# Altium integrated library LimeSDR-XTRX_1v1.IntLib: 82 symbols (part 3 of 3)
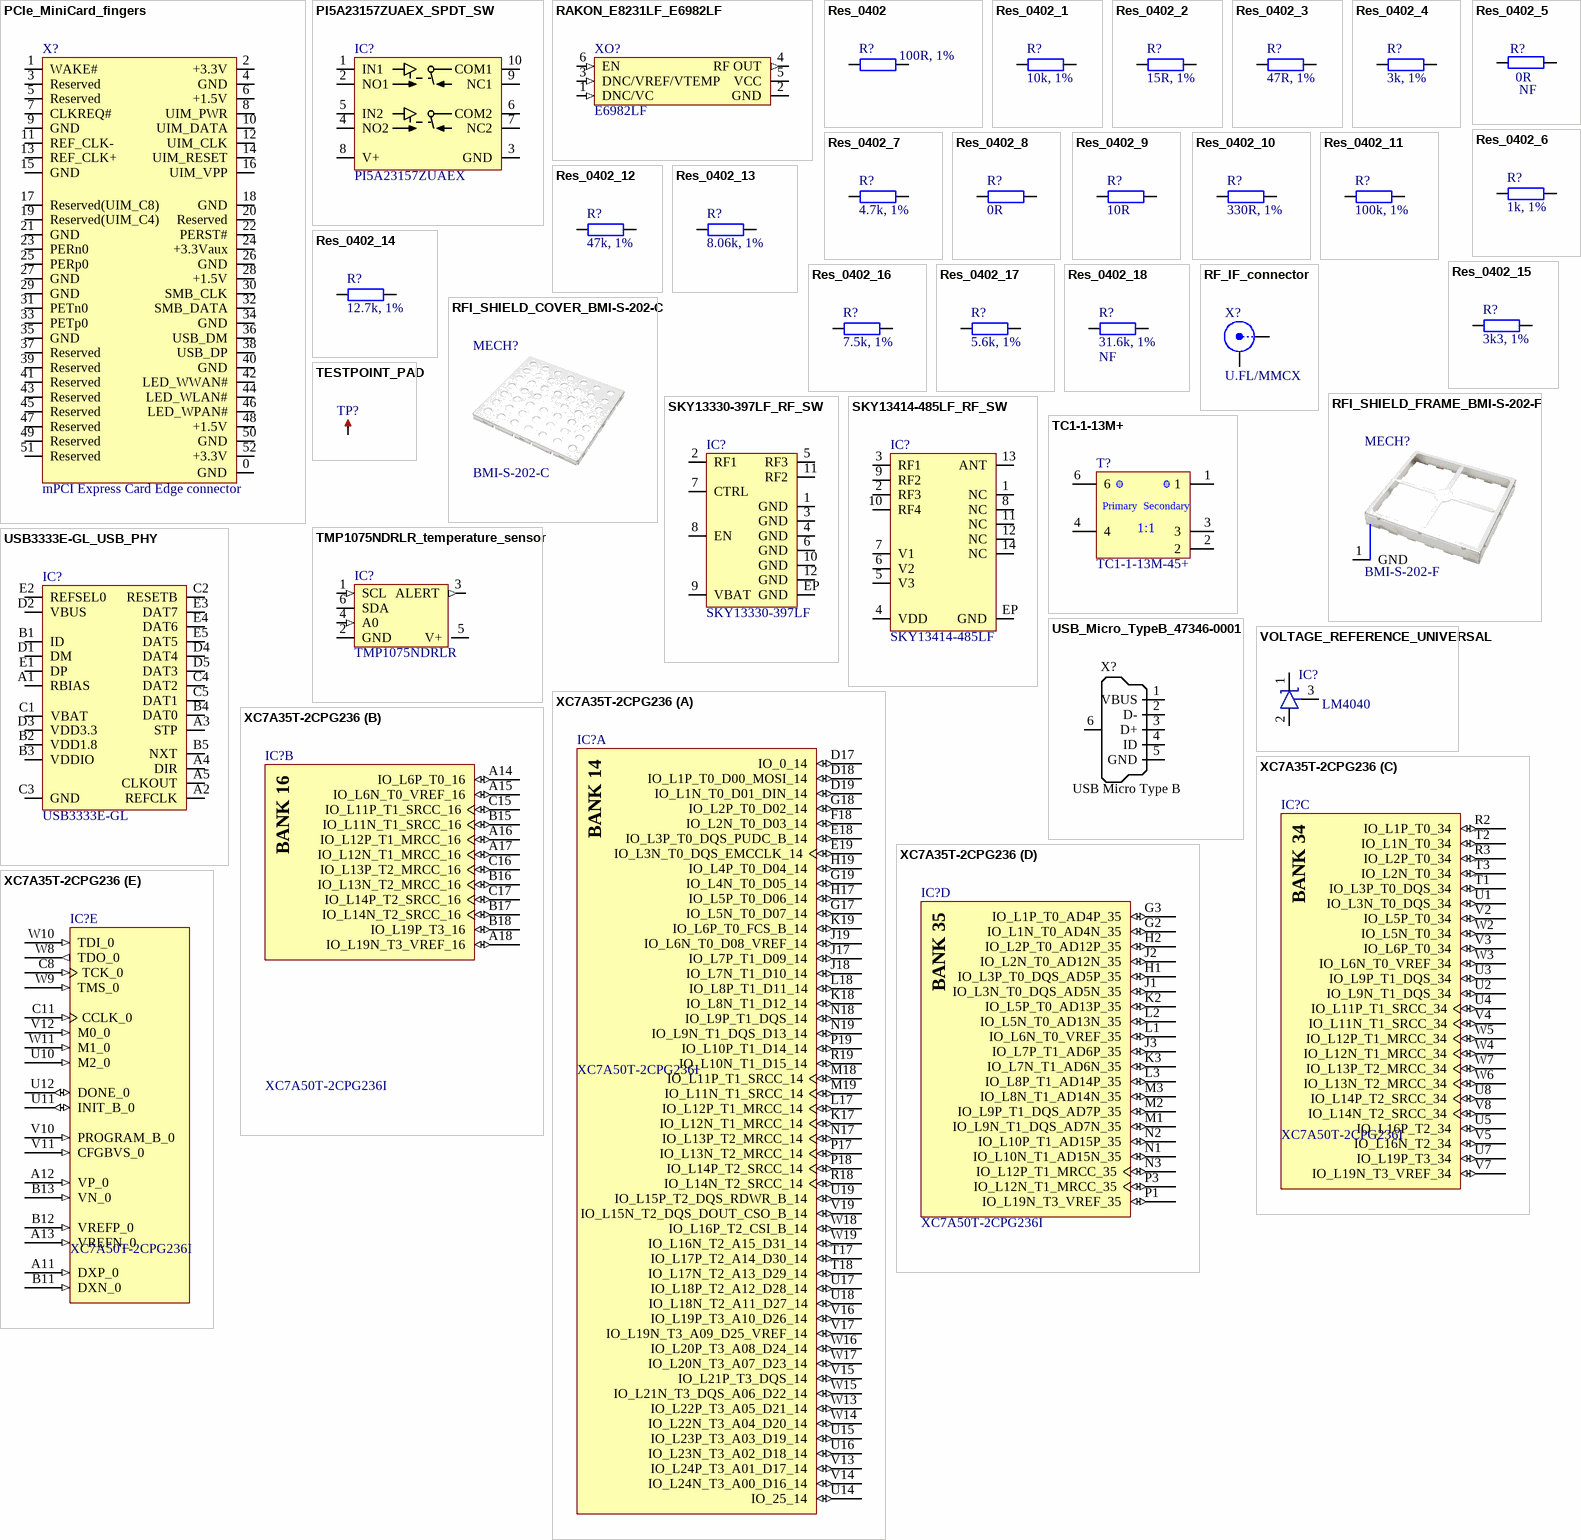
[diagram p5: symbols PCIe_MiniCard_fingers to XC7A35T-2CPG236]

## Res_0402_15
designator R?, comment 3k3, 1%
Part Description: 3.3 kOhms ±1% 0.05W, 1/20W Chip Resistor 0201 (0603 Metric) Moisture Resistant Thick Film; Manufacturer: Yageo; Manufacturer Part Number 1: RC0201FR-073K3L; Resistance: 3.3kR; Power Rating: 50mW; Voltage Rating: 25V; Temperature Coefficient: 200ppm/°C; ComponentLink1URL: http://www.yageo.com/documents/recent/PYu-RC_Group_51_RoHS_L_7.pdf; ComponentLink1Description: http://www.yageo.com/documents/recent/PYu-RC_Group_51_RoHS_L_7.pdf; Value: 3k3, 1%; Supplier 1: Digi-Key; Supplier Part Number 1: YAG2285CT-ND; Stock 1: 586100; Pricing 1: 1=0,10000, 10=0,03700, 100=0,01500, 1000=0,00672, 2500=0,00583, 5000=0,00482 (USD); RoHS: Yes; Case/Package: 0201; Case Code (Metric): 0603; Case Code (Imperial): 0201; Min Operating Temperature: -55°C; Max Operating Temperature: 125°C; Tolerance: 1%; Packaging: Tape and Reel; Package Quantity: 10000; Resistor Type: Thick Film; Number of Terminations: 2; Termination: SMD/SMT; Max Power Dissipation: 50mW; Features: Moisture Resistant; Series: RC; Construction: Rectangular; Resistance Tolerance: 1%; Length: 0.024inch; Width: 0.3mm; Height: 0.01inch; Depth: 0.3mm; Military Standard: Not; RoHS Compliant: Yes; ComponentLink2URL: https://datasheet.ciiva.com/22698/1563626-22698524.pdf?src-supplier=Element14; ComponentLink2Description: https://datasheet.ciiva.com/22698/1563626-22698524.pdf?src-supplier=Element14; ComponentLink3URL: https://datasheet.ciiva.com/14985/pyu-r-int-thick-7-14985418.pdf?src-supplier=Digi-Key; ComponentLink3Description: https://datasheet.ciiva.com/14985/pyu-r-int-thick-7-14985418.pdf?src-supplier=Digi-Key
footprint RES0201
pins: 1, 2

## Res_0402_16
designator R?, comment 7.5k, 1%
Manufacturer: Stackpole Electronics; Manufacturer Part Number 1: RMCF0201FT7K50; Part Description: 7.5 kOhms ±1% 0.05W, 1/20W Chip Resistor 0201 (0603 Metric) Thick Film; Resistance: 7.5kR; Max Power Dissipation: 50mW; Temperature Coefficient: 200ppm/°C; Value: 7.5k, 1%; ComponentLink1URL: https://datasheet.ciiva.com/5924/1563626-5924912.pdf?src-supplier=Farnell; ComponentLink1Description: https://datasheet.ciiva.com/5924/1563626-5924912.pdf?src-supplier=Farnell; ComponentLink2URL: https://datasheet.ciiva.com/22661/1563626-22661319.pdf?src-supplier=Element14; ComponentLink2Description: https://datasheet.ciiva.com/22661/1563626-22661319.pdf?src-supplier=Element14; ComponentLink3URL: https://datasheet.ciiva.com/7660/1421516-7660807.pdf?src-supplier=Element14; ComponentLink3Description: https://datasheet.ciiva.com/7660/1421516-7660807.pdf?src-supplier=Element14; ComponentLink4URL: https://datasheet.ciiva.com/46391/1421516-46391339.pdf?src-supplier=Element14; ComponentLink4Description: https://datasheet.ciiva.com/46391/1421516-46391339.pdf?src-supplier=Element14; ComponentLink5URL: https://datasheet.ciiva.com/2467/pyu-r-int-thick-7-2467110.pdf?src-supplier=Digi-Key; ComponentLink5Description: https://datasheet.ciiva.com/2467/pyu-r-int-thick-7-2467110.pdf?src-supplier=Digi-Key; ComponentLink6URL: https://datasheet.ciiva.com/2467/pyu-r-int-thick-7-2467111.pdf?src-supplier=Digi-Key; ComponentLink6Description: https://datasheet.ciiva.com/2467/pyu-r-int-thick-7-2467111.pdf?src-supplier=Digi-Key; ComponentLink7URL: https://datasheet.ciiva.com/2467/pyu-r-int-thick-7-2467109.pdf?src-supplier=Digi-Key; ComponentLink7Description: https://datasheet.ciiva.com/2467/pyu-r-int-thick-7-2467109.pdf?src-supplier=Digi-Key; Supplier 1: Digi-Key; Supplier Part Number 1: RMCF0201FT7K50CT-ND; Stock 1: 145930; Pricing 1: 1=0,10000, 10=0,02400, 100=0,00970, 1000=0,00437, 2500=0,00379, 5000=0,00313 (USD); RoHS: Yes; Mount: Surface Mount; Case/Package: 0201; Case Code (Metric): 0603; Case Code (Imperial): 0201; Contact Plating: Tin,Matte; Min Operating Temperature: -55°C; Max Operating Temperature: 125°C; Packaging: Tape and Reel; Tolerance: 1%; Package Quantity: 10000; Resistor Type: Thick Film; Number of Terminations: 2; Series: RMCF; Length: 0.024inch; Width: 0.012inch; Height: 0.009inch; Radiation Hardening: No; RoHS Compliant: Yes; ComponentLink8URL: https://www.seielect.com/catalog/SEI-Packaging.pdf?src-supplier=Digi-Key; ComponentLink8Description: https://www.seielect.com/catalog/SEI-Packaging.pdf?src-supplier=Digi-Key; ComponentLink9URL: https://www.seielect.com/Catalog/SEI-RMCF_RMCP.pdf?src-supplier=Digi-Key; ComponentLink9Description: https://www.seielect.com/Catalog/SEI-RMCF_RMCP.pdf?src-supplier=Digi-Key; ComponentLink10URL: https://www.seielect.com/catalog/SEI-RMCF_RMCP.pdf?src-supplier=Avnet; ComponentLink10Description: https://www.seielect.com/catalog/SEI-RMCF_RMCP.pdf?src-supplier=Avnet; ComponentLink11URL: http://www.seielect.com/Catalog/SEI-RMCF_RMCP.pdf?src-supplier=Digi-Key; ComponentLink11Description: http://www.seielect.com/Catalog/SEI-RMCF_RMCP.pdf?src-supplier=Digi-Key
footprint RES0201
pins: 1, 2

## Res_0402_17
designator R?, comment 5.6k, 1%
Manufacturer: Yageo; Manufacturer Part Number 1: RC0201FR-075K6L; Part Description: 5.6 kOhms ±1% 0.05W, 1/20W Chip Resistor 0201 (0603 Metric) Moisture Resistant Thick Film; Resistance: 5.6kR; Power Rating: 50mW; Voltage Rating: 25V; Temperature Coefficient: 200ppm/°C; Value: 5.6k, 1%; ComponentLink1URL: https://datasheet.ciiva.com/5924/1563626-5924912.pdf?src-supplier=Farnell; ComponentLink1Description: https://datasheet.ciiva.com/5924/1563626-5924912.pdf?src-supplier=Farnell; ComponentLink2URL: https://datasheet.ciiva.com/22661/1563626-22661319.pdf?src-supplier=Element14; ComponentLink2Description: https://datasheet.ciiva.com/22661/1563626-22661319.pdf?src-supplier=Element14; ComponentLink3URL: https://datasheet.ciiva.com/7660/1421516-7660807.pdf?src-supplier=Element14; ComponentLink3Description: https://datasheet.ciiva.com/7660/1421516-7660807.pdf?src-supplier=Element14; ComponentLink4URL: https://datasheet.ciiva.com/46391/1421516-46391339.pdf?src-supplier=Element14; ComponentLink4Description: https://datasheet.ciiva.com/46391/1421516-46391339.pdf?src-supplier=Element14; ComponentLink5URL: https://datasheet.ciiva.com/2467/pyu-r-int-thick-7-2467110.pdf?src-supplier=Digi-Key; ComponentLink5Description: https://datasheet.ciiva.com/2467/pyu-r-int-thick-7-2467110.pdf?src-supplier=Digi-Key; ComponentLink6URL: https://datasheet.ciiva.com/2467/pyu-r-int-thick-7-2467111.pdf?src-supplier=Digi-Key; ComponentLink6Description: https://datasheet.ciiva.com/2467/pyu-r-int-thick-7-2467111.pdf?src-supplier=Digi-Key; ComponentLink7URL: https://datasheet.ciiva.com/2467/pyu-r-int-thick-7-2467109.pdf?src-supplier=Digi-Key; ComponentLink7Description: https://datasheet.ciiva.com/2467/pyu-r-int-thick-7-2467109.pdf?src-supplier=Digi-Key; Supplier 1: Digi-Key; Supplier Part Number 1: YAG2346CT-ND; Stock 1: 808399; Pricing 1: 1=0,10000, 10=0,03700, 100=0,01500, 1000=0,00672, 2500=0,00583, 5000=0,00482 (USD); RoHS: Yes; Case/Package: 0201; Case Code (Metric): 0603; Case Code (Imperial): 0201; Min Operating Temperature: -55°C; Max Operating Temperature: 125°C; Package Quantity: 10000; Packaging: Tape and Reel; Tolerance: 1%; Resistor Type: Thick Film; Number of Terminations: 2; Termination: SMD/SMT; Max Power Dissipation: 50mW; Features: Moisture Resistant; Series: RC; Resistance Tolerance: 1%; Length: 0.024inch; Width: 0.3mm; Height: 0.01inch; Reach SVHC Compliant: Yes; RoHS Compliant: Yes; ComponentLink8URL: https://datasheet.ciiva.com/22661/1563626-22661325.pdf?src-supplier=Element14; ComponentLink8Description: https://datasheet.ciiva.com/22661/1563626-22661325.pdf?src-supplier=Element14
footprint RES0201
pins: 1, 2

## Res_0402_18
designator R?, comment 31.6k, 1%  Assembly Info: NF
Manufacturer: Yageo; Manufacturer Part Number 1: RC0201FR-0731K6L; Part Description: 31.6 kOhms ±1% 0.05W, 1/20W Chip Resistor 0201 (0603 Metric) Moisture Resistant Thick Film; Resistance: 31.6kR; Max Power Dissipation: 50mW; Temperature Coefficient: 200ppm/°C; Value: 31.6k, 1%; ComponentLink1URL: https://datasheet.ciiva.com/5924/1563626-5924912.pdf?src-supplier=Farnell; ComponentLink1Description: https://datasheet.ciiva.com/5924/1563626-5924912.pdf?src-supplier=Farnell; ComponentLink2URL: https://datasheet.ciiva.com/22661/1563626-22661319.pdf?src-supplier=Element14; ComponentLink2Description: https://datasheet.ciiva.com/22661/1563626-22661319.pdf?src-supplier=Element14; ComponentLink3URL: https://datasheet.ciiva.com/7660/1421516-7660807.pdf?src-supplier=Element14; ComponentLink3Description: https://datasheet.ciiva.com/7660/1421516-7660807.pdf?src-supplier=Element14; ComponentLink4URL: https://datasheet.ciiva.com/46391/1421516-46391339.pdf?src-supplier=Element14; ComponentLink4Description: https://datasheet.ciiva.com/46391/1421516-46391339.pdf?src-supplier=Element14; ComponentLink5URL: https://datasheet.ciiva.com/2467/pyu-r-int-thick-7-2467110.pdf?src-supplier=Digi-Key; ComponentLink5Description: https://datasheet.ciiva.com/2467/pyu-r-int-thick-7-2467110.pdf?src-supplier=Digi-Key; ComponentLink6URL: https://datasheet.ciiva.com/2467/pyu-r-int-thick-7-2467111.pdf?src-supplier=Digi-Key; ComponentLink6Description: https://datasheet.ciiva.com/2467/pyu-r-int-thick-7-2467111.pdf?src-supplier=Digi-Key; ComponentLink7URL: https://datasheet.ciiva.com/2467/pyu-r-int-thick-7-2467109.pdf?src-supplier=Digi-Key; ComponentLink7Description: https://datasheet.ciiva.com/2467/pyu-r-int-thick-7-2467109.pdf?src-supplier=Digi-Key; Supplier 1: Digi-Key; Supplier Part Number 1: YAG2597CT-ND; Stock 1: 255391; Pricing 1: 1=0,10000, 10=0,03700, 100=0,01500, 1000=0,00672, 2500=0,00583, 5000=0,00482 (USD); RoHS: Yes; Case/Package: 0201; Case Code (Metric): 0603; Case Code (Imperial): 0201; Min Operating Temperature: -55°C; Max Operating Temperature: 125°C; Packaging: Tape and Reel; Resistor Type: Thick Film; Number of Terminations: 2; Tolerance: 1%; Features: Moisture Resistant; Length: 0.024inch; Width: 0.012inch; Height: 0.01inch; RoHS Compliant: Yes; ComponentLink8URL: http://www.yageo.com/documents/recent/PYu-RC_Group_51_RoHS_L_10.pdf?src-supplier=Digi-Key; ComponentLink8Description: http://www.yageo.com/documents/recent/PYu-RC_Group_51_RoHS_L_10.pdf?src-supplier=Digi-Key; ComponentLink9URL: https://www.yageo.com/upload/media/product/productsearch/datasheet/rchip/PYu-RC_Group_51_RoHS_L_11.pdf?src-supplier=Digi-Key; ComponentLink9Description: https://www.yageo.com/upload/media/product/productsearch/datasheet/rchip/PYu-RC_Group_51_RoHS_L_11.pdf?src-supplier=Digi-Key; ComponentLink10URL: http://www.yageo.com/documents/recent/PYu-RC_Group_51_RoHS_L_9.pdf?src-supplier=Digi-Key; ComponentLink10Description: http://www.yageo.com/documents/recent/PYu-RC_Group_51_RoHS_L_9.pdf?src-supplier=Digi-Key
footprint RES0201
pins: 1, 2

## RF_IF_connector
designator X?, comment U.FL/MMCX
CONN UMC RCPT STR 50 OHM SMD; Manufacturer: Molex, LLC; Manufacturer Part Number 1: 0734120110; Part Description: Ultra Miniature Coaxial Connector Receptacle, Male Pin 50 Ohm Surface Mount Solder; Body Finish: Nickel; Body Material: Phosphor Bronze; Center Contact Material: Brass; Center Contact Plating: Gold; Connector Style: Ultra Miniature Coaxial; Connector Type: Jack, Male Pin; Contact Termination: Solder; Dielectric Material: Liquid Crystal Polymer (LCP); Frequency - Max: 6GHz; Impedance: 50 Ohm; Voltage Rating: 60V; Cable Group: -; Category: Connectors, Interconnects; Fastening Type: Snap-On; Features: -; Housing Color: Silver; Ingress Protection: -; Mounting Type: Surface Mount; Operating Temperature: -40°C ~ 90°C; Packaging: Cut Tape (CT); RoHS: RoHS Compliant; Shield Termination: Solder; Supplier 1: Digi-Key; Supplier Part Number 1: WM5587CT-ND
footprint MMCX_UFL_conn
footprint MMCX_UFL_conn_u_v2 (Less silkscreen)
pins: 1 X, 2 Y

## RFI_SHIELD_COVER_BMI-S-202-C
designator MECH?, comment BMI-S-202-C
Part Description: RF Shield Cover 0.668" (16.96mm) X 0.668" (16.96mm) Vent Holes in Pattern Snap Fit; Manufacturer: Laird; ComponentLink1URL: https://www.leadertechinc.com/assets/files/EngineeringDrawings/SMS-206.PDF; ComponentLink1Description: https://www.leadertechinc.com/assets/files/EngineeringDrawings/SMS-206.PDF; Supplier 1: Digi-Key; Supplier Part Number 1: 903-1014-ND; Manufacturer Part Number 1: BMI-S-202-C; Stock 1: 245970; Pricing 1: 1=1,68000, 10=1,51300, 25=1,42760, 100=1,21620, 250=1,14200, 500=0,99924, 1000=0,82795, 2500=0,77085, 5000=0,74230 (USD); RoHS: Yes; Color: Grey; Material: Aluminium; Package Quantity: 1400; Packaging: Bulk; Series: SMT 2 Piece; Length: 16.5mm; Width: 16.5mm; Depth: 3.6mm; ComponentLink2URL: http://www.farnell.com/datasheets/1965028.pdf?src-supplier=Farnell; ComponentLink2Description: http://www.farnell.com/datasheets/1965028.pdf?src-supplier=Farnell; ComponentLink3URL: http://www.mouser.com/ds/2/223/Laird_BMIS_201_210-201562.pdf?src-supplier=Mouser; ComponentLink3Description: http://www.mouser.com/ds/2/223/Laird_BMIS_201_210-201562.pdf?src-supplier=Mouser; ComponentLink4URL: http://www.farnell.com/datasheets/1965028.pdf?src-supplier=Newark; ComponentLink4Description: http://www.farnell.com/datasheets/1965028.pdf?src-supplier=Newark; ComponentLink5URL: http://www.farnell.com/datasheets/1965028.pdf?src-supplier=Element14; ComponentLink5Description: http://www.farnell.com/datasheets/1965028.pdf?src-supplier=Element14; ComponentLink6URL: http://assets.lairdtech.com/home/brandworld/files/Board%20Level%20Shields%20Catalog%20Download.pdf?src-supplier=Digi-Key; ComponentLink6Description: http://assets.lairdtech.com/home/brandworld/files/Board%20Level%20Shields%20Catalog%20Download.pdf?src-supplier=Digi-Key; ComponentLink7URL: http://assets.lairdtech.com/home/brandworld/files/Board%20Level%20Shields%20Catalog%20Download.pdf?src-supplier=Quest; ComponentLink7Description: http://assets.lairdtech.com/home/brandworld/files/Board%20Level%20Shields%20Catalog%20Download.pdf?src-supplier=Quest
footprint BMI-S-202-C_RF_SHIELD_COVER

## RFI_SHIELD_FRAME_BMI-S-202-F
designator MECH?, comment BMI-S-202-F
Part Description: RF Shield Frame 0.650" (16.50mm) X 0.650" (16.50mm) Surface Mount; Manufacturer: Laird; ComponentLink1URL: https://www.leadertechinc.com/assets/files/EngineeringDrawings/SMS-206.PDF; ComponentLink1Description: https://www.leadertechinc.com/assets/files/EngineeringDrawings/SMS-206.PDF; Supplier 1: Digi-Key; Supplier Part Number 1: 903-1051-1-ND; Manufacturer Part Number 1: BMI-S-202-F; Stock 1: 239502; Pricing 1: 1=1,94000, 10=1,74100, 25=1,64280, 100=1,39970, 250=1,31428 (USD); RoHS: Yes; Mount: Solder; Material: Aluminium; Color: Grey; Package Quantity: 700; Packaging: Tape and Reel; Length: 16.5mm; Width: 16.5mm; Depth: 3.6mm; Reach SVHC Compliant: Unknown; ComponentLink2URL: https://datasheet.ciiva.com/2799/bmi-s-202-2799404.pdf?src-supplier=Digi-Key; ComponentLink2Description: https://datasheet.ciiva.com/2799/bmi-s-202-2799404.pdf?src-supplier=Digi-Key
footprint BMI-S-202-F_RF_SHIELD_FRAME_v3
pins: 1 GND

## SKY13330-397LF_RF_SW
designator IC?, comment SKY13330-397LF
Part Description: RF Switch IC W-CDMA SPDT 6 GHz 50Ohm 12-QFN (2x2); Manufacturer: Skyworks Solutions; Frequency: 100MHz; Throw Configuration: SPDT; P1dB: 39dBm; Impedance: 50R; Insertion Loss: 0.65dB; Turn-Off Delay Time: 1.6us; Max Frequency: 6GHz; Supplier 1: Digi-Key; Supplier Part Number 1: 863-1643-1-ND; Manufacturer Part Number 1: SKY13330-397LF; Stock 1: 596826; Pricing 1: 1=0,99000, 10=0,88800, 25=0,84280, 100=0,69230, 250=0,64716, 500=0,57190, 1000=0,45150 (USD); RoHS: Yes; Mount: Surface Mount; Case/Package: QFN; Number of Pins: 12; Contact Plating: Tin,Matte; Weight: 0.000776oz; Min Operating Temperature: -40°C; Max Operating Temperature: 85°C; Packaging: Tape and Reel; Package Quantity: 3000; Turn-On Delay Time: 1.6us; Radiation Hardening: No; ComponentLink1URL: https://datasheet.ciiva.com/15100/getdatasheetpartid-656010-15100460.pdf?src-supplier=Verical; ComponentLink1Description: https://datasheet.ciiva.com/15100/getdatasheetpartid-656010-15100460.pdf?src-supplier=Verical
footprint SKY13330-397LF_RF_SW_QFN12
pins: 1 GND, 2 RF1, 3 GND, 4 GND, 5 RF3, 6 GND, 7 CTRL, 8 EN, 9 VBAT, 10 GND, 11 RF2, 12 GND, EP GND

## SKY13414-485LF_RF_SW
designator IC?, comment SKY13414-485LF
Part Description: RF Switch IC General Purpose SP4T 3 GHz 50Ohm 14-QFN (2x2); Manufacturer: Skyworks Solutions; P1dB: 37dBm; Impedance: 50R; Throw Configuration: SP4T; IIP3: 70dBm; Supplier 1: Digi-Key; Supplier Part Number 1: 863-1582-1-ND; Manufacturer Part Number 1: SKY13414-485LF; Stock 1: 43522; Pricing 1: 1=1,35000, 10=1,20700, 25=1,14520, 100=0,94070, 250=0,87936, 500=0,77710, 1000=0,61350 (USD); RoHS: Yes; Case/Package: QFN; Min Operating Temperature: -40°C; Max Operating Temperature: 85°C; Packaging: Tape and Reel; Package Quantity: 3000; RoHS Compliant: Yes; ComponentLink1URL: https://datasheet.ciiva.com/15309/sky13414-485lf-201689g-231640-15309794.pdf?src-supplier=Mouser; ComponentLink1Description: https://datasheet.ciiva.com/15309/sky13414-485lf-201689g-231640-15309794.pdf?src-supplier=Mouser
footprint SKY13414-485LF_RF_SW_QFN14
pins: 1 NC, 2 RF3, 3 RF1, 4 VDD (power), 5 V3 (power), 6 V2 (power), 7 V1 (power), 8 NC, 9 RF2, 10 RF4, 11 NC, 12 NC, 13 ANT, 14 NC, EP GND (power)

## TC1-1-13M+
designator T?, comment TC1-1-13M-45+
Part Description: RF balun; 1:1 ratio; 3 dB bandwidth: 0.3 MHz to 3.5 GHz; 3.8mm x 3.8mm; Manufacturer: Minicircuits; Supplier 1: Minicircuits; Manufacturer Part Number 1: TC1-1-13M-45+; Supplier Part Number 1: TC1-1-13M-45+
footprint TC1-1-13MA+_JA4220-AL_ (Balun compatible with TC1-1-13MA+ and JA4220-AL_)
pins: 1, 2, 3, 4, 6
text: Primary; Secondary; 1:1

## TESTPOINT_PAD
designator TP?  (value not drawn)  (no BOM)
Test Point PCB mount Miniature White
footprint TP_PAD_1MM
pins: 1

## TMP1075NDRLR_temperature_sensor
designator IC?, comment TMP1075NDRLR
Part Description: Temperature Sensor Digital, Local -40°C ~ 125°C 12 b SOT-563; Manufacturer: Texas Instruments; Supplier 1: Digi-Key; Supplier Part Number 1: 296-TMP1075NDRLRCT-ND; Manufacturer Part Number 1: TMP1075NDRLR; Stock 1: 3405; Pricing 1: 1=0,67000, 5=0,63800, 10=0,55500, 25=0,48760, 50=0,40500, 100=0,34500, 500=0,30000, 1000=0,26250 (USD); RoHS: No; RoHS Compliant: Yes
footprint TMP1075NDRLR_temperature_sensor_SOT563
pins: 1 SCL (in), 2 GND, 3 ALERT (out), 4 A0 (in), 5 V+ (power), 6 SDA (io)

## USB3333E-GL_USB_PHY
designator IC?, comment USB3333E-GL
IC USB 2.0 FHY; Part Description: Transceiver Half USB 2.0 25-WLCSP (1.97x1.97); Manufacturer: Microchip; Manufacturer Part Number 1: USB3333E-GL-TR; Data Rate: 480Mbps; Supplier 1: Digi-Key; Supplier Part Number 1: USB3333E-GL-TR-ND; Stock 1: 0; RoHS: Yes; Packaging: Tape and Reel; Package Quantity: 3000; Series: *; RoHS Compliant: Yes; ComponentLink1URL: https://datasheet.ciiva.com/6634/usb333x-6634538.pdf?src-supplier=Digi-Key; ComponentLink1Description: https://datasheet.ciiva.com/6634/usb333x-6634538.pdf?src-supplier=Digi-Key
footprint USB3333E-GL_USB_PHY_25WLCSP
pins: A1 RBIAS, A2 REFCLK, A3 STP, A4 DIR, A5 CLKOUT, B1 ID, B2 VDD1.8, B3 VDDIO, B4 DAT0, B5 NXT, C1 VBAT, C2 RESETB, C3 GND, C4 DAT2, C5 DAT1, D1 DM, D2 VBUS, D3 VDD3.3, D4 DAT4, D5 DAT3, E1 DP, E2 REFSEL0, E3 DAT7, E4 DAT6, E5 DAT5

## USB_Micro_TypeB_47346-0001
designator X?, comment USB Micro Type B
Connector SMD USB Micro Type B; Part Description: USB - micro B USB 2.0 Receptacle Connector 5 Position Surface Mount, Right Angle; Manufacturer: Molex; Manufacturer Part Number 1: 47346-0001; Supplier 1: Digi-Key; Supplier Part Number 1: WM17141CT-ND; Stock 1: 48746; Pricing 1: 1=1,66000, 10=1,41200, 100=1,16660, 1000=0,92100 (USD); RoHS: Yes; ComponentLink1URL: https://datasheet.ciiva.com/30075/304740473460001-io-nectors-30075527.pdf?src-supplier=Onlinecomponents.com; ComponentLink1Description: https://datasheet.ciiva.com/30075/304740473460001-io-nectors-30075527.pdf?src-supplier=Onlinecomponents.com; ComponentLink2URL: https://datasheet.ciiva.com/22654/1630785-22654942.pdf?src-supplier=Element14; ComponentLink2Description: https://datasheet.ciiva.com/22654/1630785-22654942.pdf?src-supplier=Element14; ComponentLink3URL: https://datasheet.ciiva.com/16148/1700180473460001-io-nectors-16148917.pdf?src-supplier=Onlinecomponents.com; ComponentLink3Description: https://datasheet.ciiva.com/16148/1700180473460001-io-nectors-16148917.pdf?src-supplier=Onlinecomponents.com; ComponentLink4URL: https://datasheet.ciiva.com/11731/0900766b80dfe0a7-11731298.pdf?src-supplier=RSComponents; ComponentLink4Description: https://datasheet.ciiva.com/11731/0900766b80dfe0a7-11731298.pdf?src-supplier=RSComponents; ComponentLink5URL: https://datasheet.ciiva.com/1098/1698067-1098476.pdf?src-supplier=Element14; ComponentLink5Description: https://datasheet.ciiva.com/1098/1698067-1098476.pdf?src-supplier=Element14; ComponentLink6URL: https://datasheet.ciiva.com/4598/0473460001-io-connectors-146446-4598841.pdf?src-supplier=Mouser; ComponentLink6Description: https://datasheet.ciiva.com/4598/0473460001-io-connectors-146446-4598841.pdf?src-supplier=Mouser; ComponentLink7URL: https://datasheet.ciiva.com/28504/0473460001-io-connectors-28504587.pdf?src-supplier=Element14; ComponentLink7Description: https://datasheet.ciiva.com/28504/0473460001-io-connectors-28504587.pdf?src-supplier=Element14; ComponentLink8URL: https://datasheet.ciiva.com/46390/1681853-46390956.pdf?src-supplier=Element14; ComponentLink8Description: https://datasheet.ciiva.com/46390/1681853-46390956.pdf?src-supplier=Element14; ComponentLink9URL: https://datasheet.ciiva.com/16986/70266948-16986683.pdf?src-supplier=Allied+Electronics; ComponentLink9Description: https://datasheet.ciiva.com/16986/70266948-16986683.pdf?src-supplier=Allied+Electronics
footprint USB_Micro_TypeB_47346-0001 (Footprint not found)
pins: 1 VBUS, 2 D-, 3 D+, 4 ID, 5 GND, 6 Shell

## VOLTAGE_REFERENCE_UNIVERSAL
designator IC?, comment LM4040
Part Description: Shunt Voltage Reference IC Fixed 3V V ±0.5% 15 mA SOT-23-3; Manufacturer: Diodes; Manufacturer Part Number 1: LM4040C30FTA; Output Voltage: 3V; Max Output Current: 15mA; Tolerance: 0.5%; Number of Channels: 1; Temperature Coefficient: 100ppm/°C; Cathode Current: 70uA; Reference Type: Shunt; Output Type: Fixed; ComponentLink1URL: https://datasheet.ciiva.com/1177/1643148-1177233.pdf?src-supplier=Avnet; ComponentLink1Description: https://datasheet.ciiva.com/1177/1643148-1177233.pdf?src-supplier=Avnet; ComponentLink2Description: https://datasheet.ciiva.com/30002/as431-30002029.pdf?src-supplier=Avnet; ComponentLink2URL: https://datasheet.ciiva.com/30002/as431-30002029.pdf?src-supplier=Avnet; ComponentLink3Description: https://datasheet.ciiva.com/29572/as431-29572149.pdf?src-supplier=Digi-Key; ComponentLink3URL: https://datasheet.ciiva.com/29572/as431-29572149.pdf?src-supplier=Digi-Key; ComponentLink4Description: https://datasheet.ciiva.com/29572/as431-29572150.pdf?src-supplier=Digi-Key; ComponentLink4URL: https://datasheet.ciiva.com/29572/as431-29572150.pdf?src-supplier=Digi-Key; Supplier 1: Digi-Key; Supplier Part Number 1: LM4040C30FTADICT-ND; Stock 1: 39055; Pricing 1: 1=0,59, 10=0,518, 25=0,4864, 100=0,3969, 250=0,36864, 500=0,31374, 1000=0,25099 (USD); RoHS: No; Mount: Surface Mount; Case/Package: SOT-23; Weight: 0.000282oz; Min Operating Temperature: -40°C; Max Operating Temperature: 125°C; Packaging: Tape and Reel; Package Quantity: 3000; Current Rating: 15mA; Min Output Voltage: 3V; Output Current: 15mA; Reference Voltage: 3V; Series: LM4040; Length: 3.04mm; Width: 1.4mm; Height: 1.02mm; Radiation Hardening: No; Lead Free: Lead Free; RoHS Compliant: No; ComponentLink5URL: https://datasheet.ciiva.com/8132/lm4040-8132551.pdf?src-supplier=Avnet; ComponentLink5Description: https://datasheet.ciiva.com/8132/lm4040-8132551.pdf?src-supplier=Avnet; Value: LM4040
footprint SOT23-3_v3 (SOT23, 3 pin)
pins: 1 K, 2 A, 3 NC/A

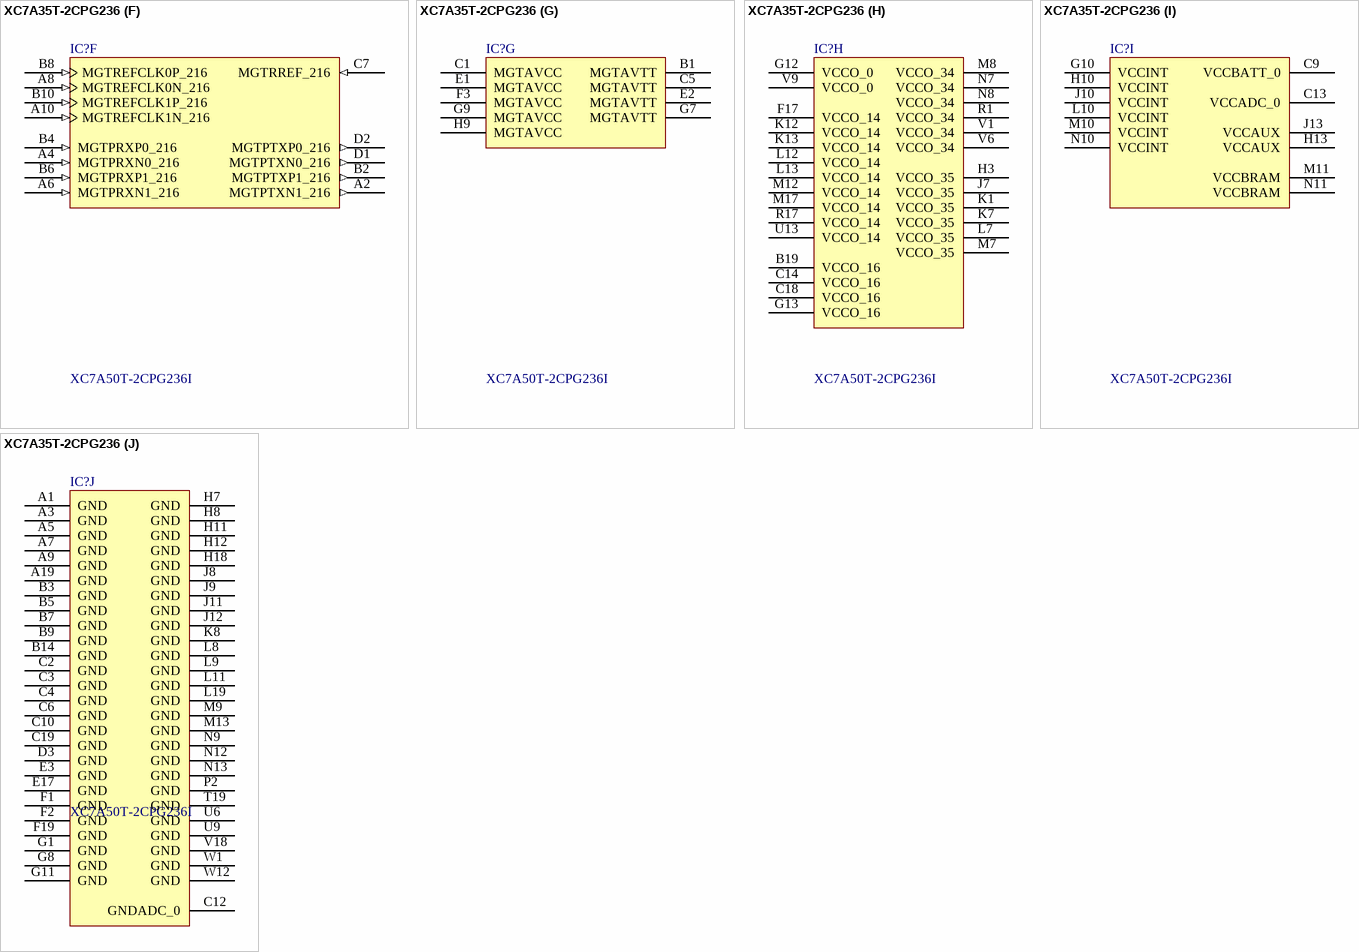
[diagram p3: symbol XC7A35T-2CPG236]

## XC7A35T-2CPG236
designator IC?, comment XC7A50T-2CPG236I
Artix-7 FPGA; Part Description: Artix-7 Field Programmable Gate Array (FPGA) IC 106 2764800 52160 238-LFBGA, CSPBGA; Manufacturer: Xilinx; Propagation Delay: 0.85ns; Speed Grade: 2; Number of Logic Blocks (LABs): 4075; Number of Logic Elements/Cells: 52160; RAM Size: 2764800b; Number of I/Os: 106; Number of Registers: 652; Min Supply Voltage: 950mV; Max Supply Voltage: 1.05V; ComponentLink1Description: Manufacturer URL; ComponentLink1URL: http://www.xilinx.com/; ComponentLink2Description: Datasheet; ComponentLink2URL: http://www.xilinx.com/support/documentation/data_sheets/ds180_7Series_Overview.pdf; ComponentLink3Description: Package Specification; ComponentLink3URL: http://www.xilinx.com/support/documentation/user_guides/ug475_7Series_Pkg_Pinout.pdf; ComponentLink4Description: DC and Switching Characteristics; ComponentLink4URL: http://www.xilinx.com/support/documentation/data_sheets/ds181_Artix_7_Data_Sheet.pdf; ComponentLink5Description: Package File; ComponentLink5URL: http://www.xilinx.com/support/packagefiles/a7packages/xc7a200tsbg484pkg.txt; ComponentLink6Description: Packaging and Pinout; ComponentLink6URL: http://www.xilinx.com/support/documentation/user_guides/ug475_7Series_Pkg_Pinout.pdf; ComponentLink7URL: http://www.farnell.com/datasheets/2553941.pdf?src-supplier=Farnell; ComponentLink7Description: http://www.farnell.com/datasheets/2553941.pdf?src-supplier=Farnell; ComponentLink8URL: http://www.xilinx.com/support/documentation/data_sheets/ds181_Artix_7_Data_Sheet.pdf?src-supplier=Avnet; ComponentLink8Description: http://www.xilinx.com/support/documentation/data_sheets/ds181_Artix_7_Data_Sheet.pdf?src-supplier=Avnet; ComponentLink9URL: https://www.xilinx.com/support/documentation/data_sheets/ds180_7Series_Overview.pdf?src-supplier=Digi-Key; ComponentLink9Description: https://www.xilinx.com/support/documentation/data_sheets/ds180_7Series_Overview.pdf?src-supplier=Digi-Key; Supplier 1: Digi-Key; Supplier Part Number 1: 122-2181-ND; Manufacturer Part Number 1: XC7A50T-2CPG236I; Stock 1: 0; RoHS: Yes; Mount: Surface Mount; Number of Pins: 236; Contact Plating: Copper,Tin,Silver; Min Operating Temperature: -40°C; Max Operating Temperature: 100°C; Turn-On Delay Time: 0.85ns; RoHS Compliant: Yes
footprint XC7A35T-2CPG236 (Footprint not found)
part A pins: D17 IO_0_14 (io), D18 IO_L1P_T0_D00_MOSI_14 (io), D19 IO_L1N_T0_D01_DIN_14 (io), E18 IO_L3P_T0_DQS_PUDC_B_14 (io), E19 IO_L3N_T0_DQS_EMCCLK_14 (io), F18 IO_L2N_T0_D03_14 (io), G17 IO_L5N_T0_D07_14 (io), G18 IO_L2P_T0_D02_14 (io), G19 IO_L4N_T0_D05_14 (io), H17 IO_L5P_T0_D06_14 (io), H19 IO_L4P_T0_D04_14 (io), J17 IO_L7P_T1_D09_14 (io), J18 IO_L7N_T1_D10_14 (io), J19 IO_L6N_T0_D08_VREF_14 (io), K17 IO_L12N_T1_MRCC_14 (io), K18 IO_L8N_T1_D12_14 (io), K19 IO_L6P_T0_FCS_B_14 (io), L17 IO_L12P_T1_MRCC_14 (io), L18 IO_L8P_T1_D11_14 (io), M18 IO_L11P_T1_SRCC_14 (io), M19 IO_L11N_T1_SRCC_14 (io), N17 IO_L13P_T2_MRCC_14 (io), N18 IO_L9P_T1_DQS_14 (io), N19 IO_L9N_T1_DQS_D13_14 (io), P17 IO_L13N_T2_MRCC_14 (io), P18 IO_L14P_T2_SRCC_14 (io), P19 IO_L10P_T1_D14_14 (io), R18 IO_L14N_T2_SRCC_14 (io), R19 IO_L10N_T1_D15_14 (io), T17 IO_L17P_T2_A14_D30_14 (io), T18 IO_L17N_T2_A13_D29_14 (io), U14 IO_25_14 (io), U15 IO_L23P_T3_A03_D19_14 (io), U16 IO_L23N_T3_A02_D18_14 (io), U17 IO_L18P_T2_A12_D28_14 (io), U18 IO_L18N_T2_A11_D27_14 (io), U19 IO_L15P_T2_DQS_RDWR_B_14 (io), V13 IO_L24P_T3_A01_D17_14 (io), V14 IO_L24N_T3_A00_D16_14 (io), V15 IO_L21P_T3_DQS_14 (io), V16 IO_L19P_T3_A10_D26_14 (io), V17 IO_L19N_T3_A09_D25_VREF_14 (io), V19 IO_L15N_T2_DQS_DOUT_CSO_B_14 (io), W13 IO_L22P_T3_A05_D21_14 (io), W14 IO_L22N_T3_A04_D20_14 (io), W15 IO_L21N_T3_DQS_A06_D22_14 (io), W16 IO_L20P_T3_A08_D24_14 (io), W17 IO_L20N_T3_A07_D23_14 (io), W18 IO_L16P_T2_CSI_B_14 (io), W19 IO_L16N_T2_A15_D31_14 (io)
part B pins: A14 IO_L6P_T0_16 (io), A15 IO_L6N_T0_VREF_16 (io), A16 IO_L12P_T1_MRCC_16 (io), A17 IO_L12N_T1_MRCC_16 (io), A18 IO_L19N_T3_VREF_16 (io), B15 IO_L11N_T1_SRCC_16 (io), B16 IO_L13N_T2_MRCC_16 (io), B17 IO_L14N_T2_SRCC_16 (io), B18 IO_L19P_T3_16 (io), C15 IO_L11P_T1_SRCC_16 (io), C16 IO_L13P_T2_MRCC_16 (io), C17 IO_L14P_T2_SRCC_16 (io)
part C pins: R2 IO_L1P_T0_34 (io), R3 IO_L2P_T0_34 (io), T1 IO_L3P_T0_DQS_34 (io), T2 IO_L1N_T0_34 (io), T3 IO_L2N_T0_34 (io), U1 IO_L3N_T0_DQS_34 (io), U2 IO_L9N_T1_DQS_34 (io), U3 IO_L9P_T1_DQS_34 (io), U4 IO_L11P_T1_SRCC_34 (io), U5 IO_L16P_T2_34 (io), U7 IO_L19P_T3_34 (io), U8 IO_L14P_T2_SRCC_34 (io), V2 IO_L5P_T0_34 (io), V3 IO_L6P_T0_34 (io), V4 IO_L11N_T1_SRCC_34 (io), V5 IO_L16N_T2_34 (io), V7 IO_L19N_T3_VREF_34 (io), V8 IO_L14N_T2_SRCC_34 (io), W2 IO_L5N_T0_34 (io), W3 IO_L6N_T0_VREF_34 (io), W4 IO_L12N_T1_MRCC_34 (io), W5 IO_L12P_T1_MRCC_34 (io), W6 IO_L13N_T2_MRCC_34 (io), W7 IO_L13P_T2_MRCC_34 (io)
part D pins: G2 IO_L1N_T0_AD4N_35 (io), G3 IO_L1P_T0_AD4P_35 (io), H1 IO_L3P_T0_DQS_AD5P_35 (io), H2 IO_L2P_T0_AD12P_35 (io), J1 IO_L3N_T0_DQS_AD5N_35 (io), J2 IO_L2N_T0_AD12N_35 (io), J3 IO_L7P_T1_AD6P_35 (io), K2 IO_L5P_T0_AD13P_35 (io), K3 IO_L7N_T1_AD6N_35 (io), L1 IO_L6N_T0_VREF_35 (io), L2 IO_L5N_T0_AD13N_35 (io), L3 IO_L8P_T1_AD14P_35 (io), M1 IO_L9N_T1_DQS_AD7N_35 (io), M2 IO_L9P_T1_DQS_AD7P_35 (io), M3 IO_L8N_T1_AD14N_35 (io), N1 IO_L10N_T1_AD15N_35 (io), N2 IO_L10P_T1_AD15P_35 (io), N3 IO_L12P_T1_MRCC_35 (io), P1 IO_L19N_T3_VREF_35 (io), P3 IO_L12N_T1_MRCC_35 (io)
part E pins: A11 DXP_0 (in), A12 VP_0 (in), A13 VREFN_0 (in), B11 DXN_0 (in), B12 VREFP_0 (in), B13 VN_0 (in), C8 TCK_0 (in), C11 CCLK_0 (in), U10 M2_0 (in), U11 INIT_B_0 (io), U12 DONE_0 (io), V10 PROGRAM_B_0 (in), V11 CFGBVS_0 (in), V12 M0_0 (in), W8 TDO_0 (out), W9 TMS_0 (in), W10 TDI_0 (in), W11 M1_0 (in)
part F pins: A2 MGTPTXN1_216 (out), A4 MGTPRXN0_216 (in), A6 MGTPRXN1_216 (in), A8 MGTREFCLK0N_216 (in), A10 MGTREFCLK1N_216 (in), B2 MGTPTXP1_216 (out), B4 MGTPRXP0_216 (in), B6 MGTPRXP1_216 (in), B8 MGTREFCLK0P_216 (in), B10 MGTREFCLK1P_216 (in), C7 MGTRREF_216 (in), D1 MGTPTXN0_216 (out), D2 MGTPTXP0_216 (out)
part G pins: B1 MGTAVTT (power), C1 MGTAVCC (power), C5 MGTAVTT (power), E1 MGTAVCC (power), E2 MGTAVTT (power), F3 MGTAVCC (power), G7 MGTAVTT (power), G9 MGTAVCC (power), H9 MGTAVCC (power)
part H pins: B19 VCCO_16 (power), C14 VCCO_16 (power), C18 VCCO_16 (power), F17 VCCO_14 (power), G12 VCCO_0 (power), G13 VCCO_16 (power), H3 VCCO_35 (power), J7 VCCO_35 (power), K1 VCCO_35 (power), K7 VCCO_35 (power), K12 VCCO_14 (power), K13 VCCO_14 (power), L7 VCCO_35 (power), L12 VCCO_14 (power), L13 VCCO_14 (power), M7 VCCO_35 (power), M8 VCCO_34 (power), M12 VCCO_14 (power), M17 VCCO_14 (power), N7 VCCO_34 (power), N8 VCCO_34 (power), R1 VCCO_34 (power), R17 VCCO_14 (power), U13 VCCO_14 (power), V1 VCCO_34 (power), V6 VCCO_34 (power), V9 VCCO_0 (power)
part I pins: C9 VCCBATT_0 (power), C13 VCCADC_0 (power), G10 VCCINT (power), H10 VCCINT (power), H13 VCCAUX (power), J10 VCCINT (power), J13 VCCAUX (power), L10 VCCINT (power), M10 VCCINT (power), M11 VCCBRAM (power), N10 VCCINT (power), N11 VCCBRAM (power)
part J pins: A1 GND (power), A3 GND (power), A5 GND (power), A7 GND (power), A9 GND (power), A19 GND (power), B3 GND (power), B5 GND (power), B7 GND (power), B9 GND (power), B14 GND (power), C2 GND (power), C3 GND (power), C4 GND (power), C6 GND (power), C10 GND (power), C12 GNDADC_0 (power), C19 GND (power), D3 GND (power), E3 GND (power), E17 GND (power), F1 GND (power), F2 GND (power), F19 GND (power), G1 GND (power), G8 GND (power), G11 GND (power), H7 GND (power), H8 GND (power), H11 GND (power), H12 GND (power), H18 GND (power), J8 GND (power), J9 GND (power), J11 GND (power), J12 GND (power), K8 GND (power), L8 GND (power), L9 GND (power), L11 GND (power), L19 GND (power), M9 GND (power), M13 GND (power), N9 GND (power), N12 GND (power), N13 GND (power), P2 GND (power), T19 GND (power), U6 GND (power), U9 GND (power), V18 GND (power), W1 GND (power), W12 GND (power)
part A text: BANK 14
part B text: BANK 16
part C text: BANK 34
part D text: BANK 35